# EAGLE library part DF3-08S (library con-hirose)
Single row female connector 2mm 8 way
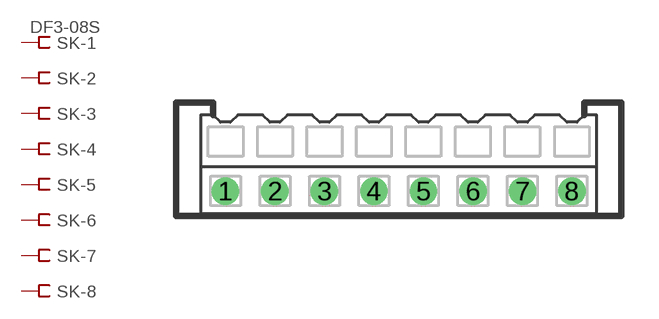
[diagram p4: symbol with the pads of DF3S-08; footprint DF3S-08]

Designator prefix SK; gates -1=FV -2=F -3=F -4=F -5=F -6=F -7=F -8=F

## DF3-08S  [DF3S-08]
1  -1:S  pas
2  -2:S  pas
3  -3:S  pas
4  -4:S  pas
5  -5:S  pas
6  -6:S  pas
7  -7:S  pas
8  -8:S  pas

## Footprint DF3S-08 (pad centres in mm)
Single row connector 2mm 8 way
drill 0.6 round: 1 -7,-1; 2 -5,-1; 3 -3,-1; 4 -1,-1; 5 1,-1; 6 3,-1; 7 5,-1; 8 7,-1